# EAGLE library part FTSH-105-01-L-D-K (library BGM220S)
Conn Unshrouded Header HDR 10 POS 1.27mm Solder ST Thru-Hole Automotive Tube
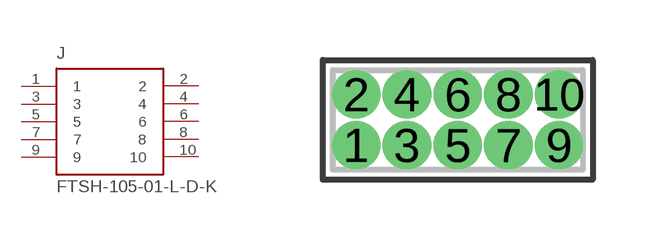
[diagram p2: symbol with the pads of SAMTEC_FTSH-105-01-L-D-K; footprint SAMTEC_FTSH-105-01-L-D-K]

Designator prefix J

## FTSH-105-01-L-D-K (DESCRIPTION: Conn Unshrouded Header HDR 10 POS 1.27mm Solder ST Thru-Hole Automotive Tube; DIGI-KEY_PART_NUMBER: SAM8798-ND; DIGI-KEY_PURCHASE_URL: https://www.digikey.com/product-detail/en/samtec-inc/FTSH-105-01-L-D-K/SAM8798-ND/2649979?utm_source=snapeda&utm_medium=aggregator&utm_campaign=symbol; MF: Samtec Inc.; MP: FTSH-105-01-L-D-K; PACKAGE: None)  [SAMTEC_FTSH-105-01-L-D-K]
1  1  pas
2  2  pas
3  3  pas
4  4  pas
5  5  pas
6  6  pas
7  7  pas
8  8  pas
9  9  pas
10  10  pas

## Footprint SAMTEC_FTSH-105-01-L-D-K (pad centres in mm)
0.050"X0.050" CL THROUGH HOLE TERMINAL STRIP ASSEMBLY, 10PINS.
drill 0.711 pad 1.016: 1 -2.54,-0.635; 2 -2.54,0.635; 3 -1.27,-0.635; 4 -1.27,0.635; 5 0,-0.635; 6 0,0.635; 7 1.27,-0.635; 8 1.27,0.635; 9 2.54,-0.635; 10 2.54,0.635